# Altium footprint library conn_sw.PCBLIB: 173 footprints (part 9 of 11)
Each footprint in its own frame and in the unit in brackets; x right, y up, seen from the top. Pads: shape width x height; smd on the part's side, far side on the other; paste and mask are expansions set on the pad; w line width, h text height; cw(c..) or ccw(c..) is an arc to the next point about the centre after c.
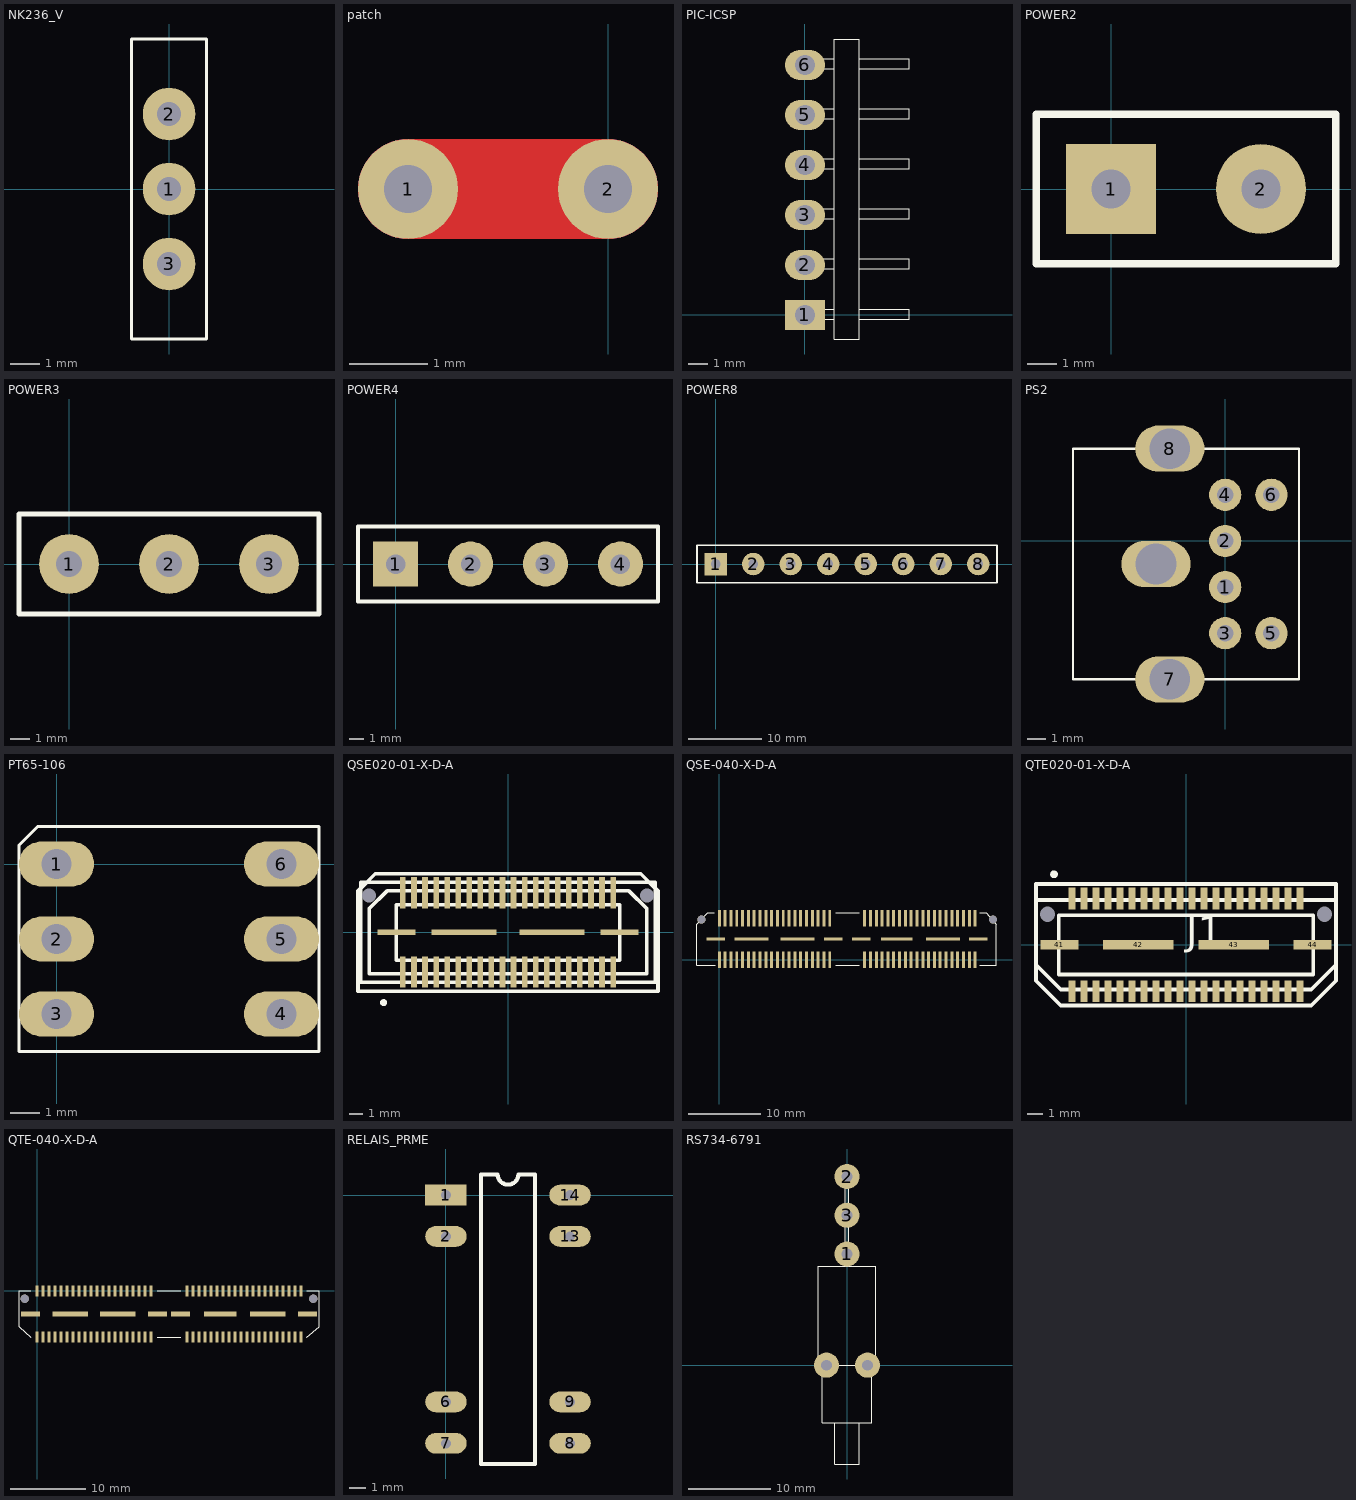
[diagram p8: the footprints below, top view; thin cyan lines are the x and y axes]

## NK236_V [mil]
pads (3):
  round 70 hole 32: 1(0,0) 2(0,100) 3(0,-100)
Top Overlay:
  lines w3.94: -50,-200 50,-200 50,200 -50,200 -50,-200

## notused [mil]

## patch [mil]
pads (2):
  round 50 hole 24: 1(-100,100) 2(0,100)
Top Layer:
  lines w50: -100,100 0,100
Bottom Layer:
  lines w50: -100,100 0,100

## PIC-ICSP [mil]
pads (6):
  rect 80x60 hole 40: 1(0,0)
  oval 80x60 hole 40: 2(0,100) 3(0,200) 4(0,300) 5(0,400) 6(0,500)
Top Overlay:
  lines w1.97: -1.89,-8.03 58.11,-8.03 ; -1.89,11.97 58.11,11.97 ; 38.11,91.97 -1.89,91.97 ; 58.11,91.97 -1.89,91.97 ; 58.11,111.97 -1.89,111.97 -1.89,91.97 ; 58.11,191.97 -1.89,191.97 -1.89,211.97 58.11,211.97 ; 58.11,291.97 -1.89,291.97 -1.89,311.97 58.11,311.97 ; 58.11,391.97 -1.89,391.97 -1.89,411.97 58.11,411.97 ; 58.11,491.97 -1.89,491.97 -1.89,511.97 58.11,511.97 ; 108.11,-8.03 208.11,-8.03 208.11,11.97 108.11,11.97 ; 108.11,91.97 208.11,91.97 208.11,111.97 108.11,111.97 ; 108.11,191.97 208.11,191.97 208.11,211.97 108.11,211.97 ; 108.11,291.97 208.11,291.97 208.11,311.97 108.11,311.97 ; 108.11,391.97 208.11,391.97 208.11,411.97 108.11,411.97 ; 108.11,491.97 208.11,491.97 208.11,511.97 108.11,511.97 ; 58.11,-48.03 58.11,551.97 108.11,551.97 108.11,-48.03 58.11,-48.03

## POWER2 [mil]
pads (2):
  rect 120x120 hole 52: 1(0,0)
  round 120 hole 52: 2(200,0)
Top Overlay:
  lines w10: -100,-100 -100,100 300,100 300,-100 -100,-100

## POWER3 [mil]
pads (3):
  round 120 hole 52: 1(0,0) 2(200,0) 3(400,0)
Top Overlay:
  lines w10: -100,-100 500,-100 500,100 -100,100 -100,-100

## POWER4 [mil]
pads (4):
  rect 120x120 hole 52: 1(0,0)
  round 120 hole 52: 2(200,0) 3(400,0) 4(600,0)
Top Overlay:
  lines w10: -100,-100 -100,0 -100,100 700,100 700,-100 -100,-100

## POWER8 [mil]
pads (8):
  rect 120x120 hole 52: 1(0,0)
  round 120 hole 52: 2(200,0) 3(400,0) 4(600,0) 5(800,0) 6(1000,0) 7(1200,0) 8(1400,0)
Top Overlay:
  lines w10: -100,-100 1500,-100 1500,100 -100,100 -100,0 -100,-100

## PS2 [mil]
pads (9):
  round 70 hole 36: 1(0,-100) 2(0,0) 3(0,-200) 4(0,100) 5(100,-200) 6(100,100)
  oval 150x100 hole 88: 7(-120,-300) 8(-120,200) ""(-150,-50)
Top Overlay:
  lines w5: -330,-300 -330,-50 -330,200 160,200 160,-300 -330,-300

## PT65-106 [mil]
pads (6):
  oval 100x60 hole 40: 1(0,0) 2(0,-100) 3(0,-200) 4(300,-200) 5(300,-100) 6(300,0)
Top Overlay:
  lines w3.94: -50,-250 350,-250 350,50 -25,50 -50,25 -50,-250

## QSE020-01-X-D-A [mil]
pads (46):
  rect 16x89 smd paste+10: 1(-299.2,-112.78) 2(-299.2,112.78) 3(-267.7,-112.78) 4(-267.7,112.78) 5(-236.22,-112.78) 6(-236.22,112.78) 7(-204.72,-112.78) 8(-204.72,112.78) 9(-173.22,-112.78) 10(-173.22,112.78) 11(-141.72,-112.78) 12(-141.72,112.78) 13(-110.23,-112.78) 14(-110.23,112.78) 15(-78.73,-112.78) 16(-78.73,112.78) 17(-47.23,-112.78) 18(-47.23,112.78) 19(-15.73,-112.78) 20(-15.73,112.78) 21(15.73,-112.78) 22(15.73,112.78) 23(47.23,-112.78) 24(47.23,112.78) 25(78.73,-112.78) 26(78.73,112.78) 27(110.23,-112.78) 28(110.23,112.78) 29(141.72,-112.78) 30(141.72,112.78) 31(173.22,-112.78) 32(173.22,112.78) 33(204.72,-112.78) 34(204.72,112.78) 35(236.22,-112.78) 36(236.22,112.78) 37(267.7,-112.78) 38(267.7,112.78) 39(299.2,-112.78) 40(299.2,112.78)
  rect 109x16 smd paste+10: 41(-317.52,0) 44(317.52,0)
  rect 185x16 smd paste+10: 42(-125,0) 43(125,0)
  round 0 hole 40: 45(-396.25,104.92) 46(396.25,104.92)
Top Overlay:
  circle w10: c-354.32,-199.85 r5
  circle w10: c-354.32,-199.85 r5
  lines w10: -427.15,-167.32 -427.15,118.1 -377.95,167.32 377.95,167.32 427.15,118.1 427.15,-167.32 -427.15,-167.32 ; -418.7,-142.52 -418.7,142.52 418.7,142.52 418.7,-142.52 -418.7,-142.52 ; -395.67,-118.1 -395.67,66.92 -344.48,118.1 344.48,118.1 395.67,66.92 395.67,-118.1 -395.67,-118.1 ; -318.88,-78.73 -318.88,78.73 318.88,78.73 318.88,-78.73 -318.88,-78.73

## QSE-040-X-D-A [mm]
pads (90):
  rect 0.41x2.27 smd: 1(0,0) 2(0,5.74) 3(0.8,0) 4(0.8,5.74) 5(1.6,0) 6(1.6,5.74) 7(2.4,0) 8(2.4,5.74) 9(3.2,0) 10(3.2,5.74) 11(4,0) 12(4,5.74) 13(4.8,0) 14(4.8,5.74) 15(5.6,0) 16(5.6,5.74) 17(6.4,0) 18(6.4,5.74) 19(7.2,0) 20(7.2,5.74) 21(8,0) 22(8,5.74) 23(8.8,0) 24(8.8,5.74) 25(9.6,0) 26(9.6,5.74) 27(10.4,0) 28(10.4,5.74) 29(11.2,0) 30(11.2,5.74) 31(12,0) 32(12,5.74) 33(12.8,0) 34(12.8,5.74) 35(13.6,0) 36(13.6,5.74) 37(14.4,0) 38(14.4,5.74) 39(15.2,0) 40(15.2,5.74) 41(20,0) 42(20,5.74) 43(20.8,0) 44(20.8,5.74) 45(21.6,0) 46(21.6,5.74) 47(22.4,0) 48(22.4,5.74) 49(23.2,0) 50(23.2,5.74) 51(24,0) 52(24,5.74) 53(24.8,0) 54(24.8,5.74) 55(25.6,0) 56(25.6,5.74) 57(26.4,0) 58(26.4,5.74) 59(27.2,0) 60(27.2,5.74) 61(28,0) 62(28,5.74) 63(28.8,0) 64(28.8,5.74) 65(29.6,0) 66(29.6,5.74) 67(30.4,0) 68(30.4,5.74) 69(31.2,0) 70(31.2,5.74) 71(32,0) 72(32,5.74) 73(32.8,0) 74(32.8,5.74) 75(33.6,0) 76(33.6,5.74) 77(34.4,0) 78(34.4,5.74) 79(35.2,0) 80(35.2,5.74)
  rect 2.54x0.43 smd: 81(-0.47,2.87) 84(15.66,2.87) 85(19.53,2.87) 88(35.66,2.87)
  rect 4.7x0.43 smd: 82(4.42,2.87) 83(10.77,2.87) 87(30.77,2.87)
  rect 4.37x0.43 smd: 86(24.42,2.87)
  round 1.1 hole 1.1: ""(-2.465,5.54) ""(37.665,5.54)
Top Overlay:
  lines w0.1: -0.67,6.47 -1.57,6.47 -3.07,4.87 -3.07,-0.73 -0.57,-0.73 ; 16.03,-0.73 19.23,-0.73 ; 16.03,6.47 19.23,6.47 ; 35.83,-0.73 38.13,-0.73 38.13,4.87 36.73,6.47 35.83,6.47

## QTE020-01-X-D-A [mil]
pads (46):
  rect 18x57 smd paste+10: 1(-299.2,121.65) 2(-299.2,-121.65) 3(-267.7,121.65) 4(-267.7,-121.65) 5(-236.22,121.65) 6(-236.22,-121.65) 7(-204.72,121.65) 8(-204.72,-121.65) 9(-173.22,121.65) 10(-173.22,-121.65) 11(-141.72,121.65) 12(-141.72,-121.65) 13(-110.23,121.65) 14(-110.23,-121.65) 15(-78.73,121.65) 16(-78.73,-121.65) 17(-47.23,121.65) 18(-47.23,-121.65) 19(-15.73,121.65) 20(-15.73,-121.65) 21(15.73,121.65) 22(15.73,-121.65) 23(47.23,121.65) 24(47.23,-121.65) 25(78.73,121.65) 26(78.73,-121.65) 27(110.23,121.65) 28(110.23,-121.65) 29(141.72,121.65) 30(141.72,-121.65) 31(173.22,121.65) 32(173.22,-121.65) 33(204.72,121.65) 34(204.72,-121.65) 35(236.22,121.65) 36(236.22,-121.65) 37(267.7,121.65) 38(267.7,-121.65) 39(299.2,121.65) 40(299.2,-121.65)
  rect 100x25 smd paste+10: 41(-332.47,0) 44(332.47,0)
  rect 185x25 smd paste+10: 42(-125,0) 43(125,0)
  round 0 hole 40: 45(-363.77,80.3) 46(363.77,80.3)
Top Overlay:
  circle w10: c-346.45,185.03 r5
  circle w10: c-346.45,185.03 r5
  lines w10: -393.7,-94.48 -328.73,-159.43 328.73,-159.43 393.7,-94.48 393.7,159.43 -393.7,159.43 -393.7,-94.48 ; -393.7,-52.35 -328.73,-117.32 328.73,-117.32 393.7,-52.35 393.7,117.32 -393.7,117.32 -393.7,-52.35 ; -333.85,-77.55 333.85,-77.55 333.85,77.55 -333.85,77.55 -333.85,-77.55
  text "J1" at 0,0 h75

## QTE-040-X-D-A [mm]
pads (90):
  rect 0.46x1.45 smd: 1(0,0) 2(0,-6.17) 3(0.8,0) 4(0.8,-6.17) 5(1.6,0) 6(1.6,-6.17) 7(2.4,0) 8(2.4,-6.17) 9(3.2,0) 10(3.2,-6.17) 11(4,0) 12(4,-6.17) 13(4.8,0) 14(4.8,-6.17) 15(5.6,0) 16(5.6,-6.17) 17(6.4,0) 18(6.4,-6.17) 19(7.2,0) 20(7.2,-6.17) 21(8,0) 22(8,-6.17) 23(8.8,0) 24(8.8,-6.17) 25(9.6,0) 26(9.6,-6.17) 27(10.4,0) 28(10.4,-6.17) 29(11.2,0) 30(11.2,-6.17) 31(12,0) 32(12,-6.17) 33(12.8,0) 34(12.8,-6.17) 35(13.6,0) 36(13.6,-6.17) 37(14.4,0) 38(14.4,-6.17) 39(15.2,0) 40(15.2,-6.17) 41(20,0) 42(20,-6.17) 43(20.8,0) 44(20.8,-6.17) 45(21.6,0) 46(21.6,-6.17) 47(22.4,0) 48(22.4,-6.17) 49(23.2,0) 50(23.2,-6.17) 51(24,0) 52(24,-6.17) 53(24.8,0) 54(24.8,-6.17) 55(25.6,0) 56(25.6,-6.17) 57(26.4,0) 58(26.4,-6.17) 59(27.2,0) 60(27.2,-6.17) 61(28,0) 62(28,-6.17) 63(28.8,0) 64(28.8,-6.17) 65(29.6,0) 66(29.6,-6.17) 67(30.4,0) 68(30.4,-6.17) 69(31.2,0) 70(31.2,-6.17) 71(32,0) 72(32,-6.17) 73(32.8,0) 74(32.8,-6.17) 75(33.6,0) 76(33.6,-6.17) 77(34.4,0) 78(34.4,-6.17) 79(35.2,0) 80(35.2,-6.17)
  rect 2.54x0.64 smd: 81(-0.845,-3.09) 84(16.045,-3.09) 85(19.155,-3.09) 88(36.045,-3.09)
  rect 4.7x0.64 smd: 82(4.425,-3.09) 83(10.775,-3.09) 87(30.775,-3.09)
  rect 4.37x0.64 smd: 86(24.425,-3.09)
  round 1.1 hole 1.1: ""(-1.64,-1.05) ""(36.84,-1.05)
Top Overlay:
  lines w0.1: -0.8,-6.2 -2.4,-4.8 -2.4,0 -0.8,0 ; 16,-6.2 19.2,-6.2 ; 16,0 19.2,0 ; 36,-6.2 37.6,-4.8 37.6,-1.61 37.6,-0.01 36,0

## RELAIS_PRME [mil]
pads (8):
  rect 100x50 hole 24 mask+4: 1(0,0)
  oval 100x50 hole 24 mask+4: 2(0,-100) 6(0,-500) 7(0,-600) 8(300,-600) 9(300,-500) 13(300,-100) 14(300,0)
Top Overlay:
  lines w10: 85,-650 215,-650 215,50 175,50 cw(c150,50) 125,50 85,50 85,-650

## RS734-6791 [mil]
pads (5):
  round 120 hole 51.18: 1(0,531.5) 2(0,901.5) 3(0,716.5) ""(-98.43,0) ""(98.43,0)
Top Overlay:
  lines w3.94: -118.11,3.94 -118.11,-275.59 118.11,-275.59 118.11,-3.94 114.17,0 ; -59.06,-275.59 -59.06,-472.44 59.06,-472.44 59.06,-275.59 ; -7.87,472.44 -7.87,905.51 7.87,905.51 7.87,472.44 ; -137.8,0 -137.8,472.44 137.8,472.44 137.8,0 -137.8,0
  lines w10: -11.81,905.51 -7.87,901.57